# EAGLE library part ICL7662EBA (library RSC-16)
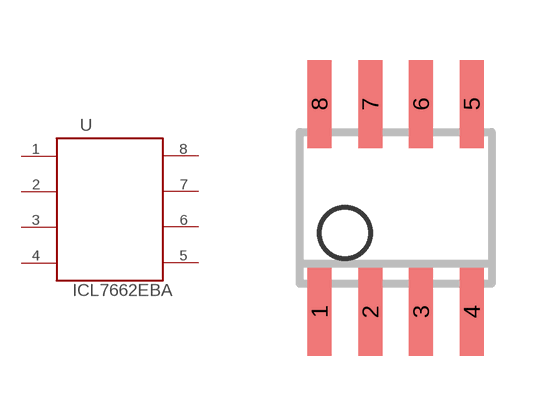
[diagram p5: symbol with the pads of SOIC8; footprint SOIC8]

Designator prefix -

## ICL7662EBA  [SOIC8]
1  1-TEST
2  2-CAP+
3  3-GND
4  4-CAP-
5  5-VOUT
6  6-LV
7  7-OSC
8  8-V+

## Footprint SOIC8 (pad centres in mm)
Small Outline IC
smd 0.6 x 2.2: 1 -1.905,-2.6; 2 -0.635,-2.6; 3 0.635,-2.6; 4 1.905,-2.6; 5 1.905,2.6; 6 0.635,2.6; 7 -0.635,2.6; 8 -1.905,2.6